# Altium footprint library PCB_Miscellaneous.PcbLib: 14 footprints
Each footprint in its own frame and in the unit in brackets; x right, y up, seen from the top. Pads: shape width x height; smd on the part's side, far side on the other; paste and mask are expansions set on the pad; w line width, h text height; cw(c..) or ccw(c..) is an arc to the next point about the centre after c.
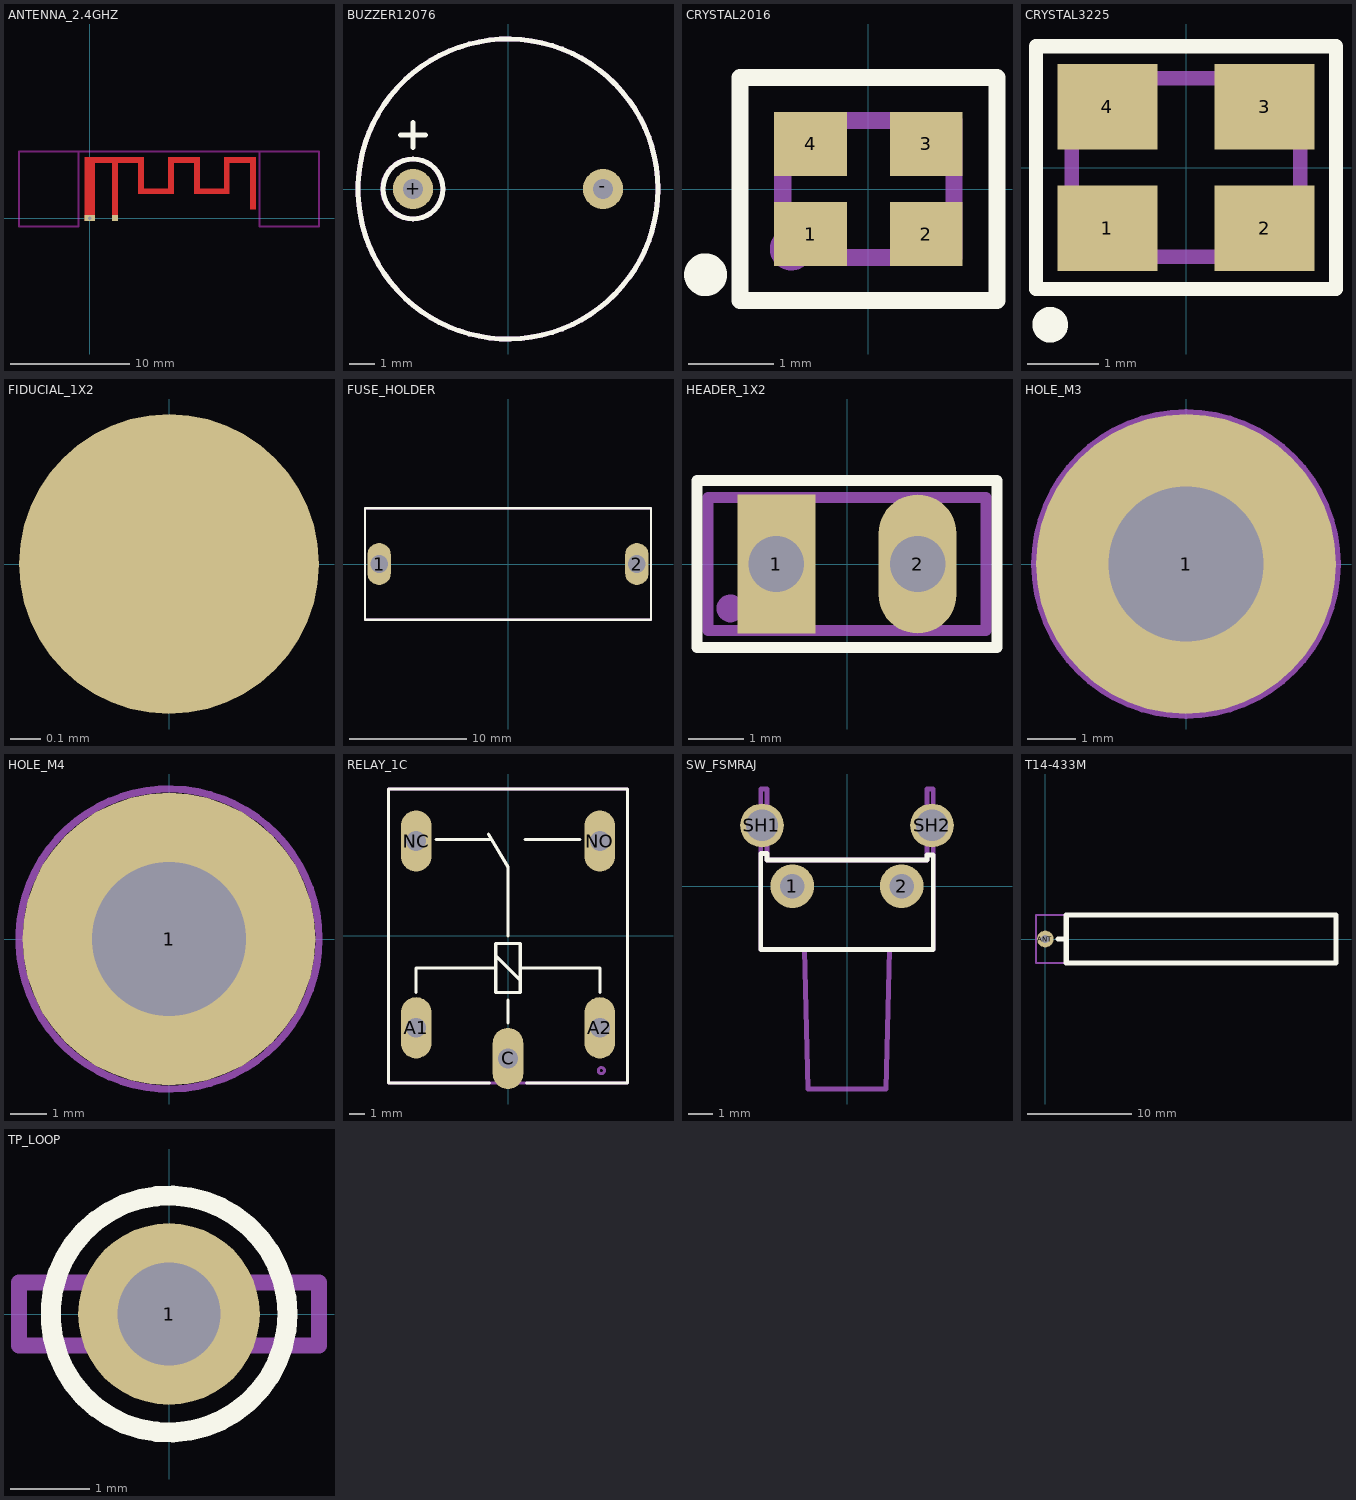
[diagram p0: the footprints below, top view; thin cyan lines are the x and y axes]

## ANTENNA_2.4GHZ [mm]
pads (2):
  rect 0.5x0.5 smd paste-2539.97 mask+0: ANT(2.1,0)
  rect 0.9x0.5 hole 0.3 paste+0 mask+0: GND(0,0)
Top Layer:
  rectangle: 1.85,-0.25 2.35,5.15
  rectangle: 4.05,2.01 7.05,2.51
  rectangle: 4.05,2.01 4.55,5.15
  rectangle: -0.45,4.65 4.55,5.15
  rectangle: 6.55,2.01 7.05,5.15
  rectangle: 6.55,4.65 9.25,5.15
  rectangle: 11.25,4.65 13.95,5.15
  rectangle: 11.25,2.01 11.75,5.15
  rectangle: 8.75,2.01 11.75,2.51
  rectangle: 8.75,2.01 9.25,5.15
  rectangle: 13.45,0.71 13.95,5.15
  rectangle: -0.45,-0.25 0.45,5.15
Keep-Out Layer:
  lines w0.2: -0.95,5.6 -0.95,-0.7 -5.95,-0.7 -5.95,5.6 19.25,5.6 19.25,-0.7 14.25,-0.7 14.25,5.6

## BUZZER12076 [mm]
pads (2):
  round 1.6 hole 0.8: +(-3.8,0) -(3.8,0)
Top Overlay:
  circle w0.2: c-3.8,0 r1.2
  circle w0.2: c0,0 r6
  lines w0.2: -4.308,2.159 -3.292,2.159 ; -3.8,1.651 -3.8,2.667
Top Assembly:
  circle w0.2: c-3.81,0 r1.2
  circle w0.2: c0,0 r6
  text ".Designator" at -3.499,-0.233 h0.7
3D body "BUZZER12076.STEP": height 9.71, standoff -5.99, extent -7.428,-5.988 6,5.988

## CRYSTAL2016 [mm]
pads (4):
  rect 0.85x0.75 smd: 1(-0.675,-0.525) 2(0.675,-0.525) 3(0.675,0.525) 4(-0.675,0.525)
Top Overlay:
  circle w0.3: c-1.9,-1 r0.1
  lines w0.2: -1.5,-1.3 -1.5,1.3 1.5,1.3 1.5,-1.3 -1.5,-1.3
Top Assembly:
  circle w0.3: c-0.9,-0.7 r0.1
  lines w0.2: -1,-0.8 -1,0.8 1,0.8 1,-0.8 -1,-0.8
  text ".Designator" at -3.499,-0.233 h0.7
3D body "CRYSTAL2016.STEP": height 0.6, standoff 0.01, extent -1.003,-0.8 1.003,0.8

## CRYSTAL3225 [mm]
pads (4):
  rect 1.4x1.2 smd: 1(-1.1,-0.85) 2(1.1,-0.85) 3(1.1,0.85) 4(-1.1,0.85)
Top Overlay:
  circle w0.3: c-1.9,-2.2 r0.1
  lines w0.2: -2.1,-1.7 2.1,-1.7 2.1,1.7 -2.1,1.7 -2.1,-1.7
Top Assembly:
  circle w0.3: c-1.1,-0.75 r0.1
  lines w0.2: -1.6,-1.25 -1.6,1.25 1.6,1.25 1.6,-1.25 -1.6,-1.25
  text ".Designator" at -3.499,-0.233 h0.7
3D body "CRYSTAL3225.STEP": height 0.71, standoff 0.01, extent -1.6,-1.25 1.6,1.25

## FIDUCIAL_1X2 [mm]
pads (1):
  round 1 smd paste-2539.97 mask+0.5: ""(0,0)

## FUSE_HOLDER [mm]
pads (2):
  oval 2x3.6 hole 1.5: 1(-11,0) 2(11,0)
Top Overlay:
  lines w0.2: -12.2,-4.75 -12.2,4.75 12.2,4.75 12.2,-4.75 -12.2,-4.75
Top Assembly:
  lines w0.2: -12.2,-4.75 -12.2,4.75 12.2,4.75 12.2,-4.75 -12.2,-4.75
  text ".Designator" at -3.499,-0.233 h0.7
3D body "FUSE_HOLDER.STEP": height 10.81, standoff -4.15, extent -12.078,-4.851 12.078,4.851

## HEADER_1X2 [mm]
pads (2):
  rect 1.4x2.5 hole 1: 1(-1.27,0)
  oval 1.4x2.5 hole 1: 2(1.27,0)
Top Overlay:
  lines w0.2: -2.7,-1.5 2.7,-1.5 2.7,1.5 -2.7,1.5 -2.7,-1.5
Top Assembly:
  circle w0.3: c-2.1,-0.8 r0.1
  lines w0.2: -2.5,-1.2 2.5,-1.2 2.5,1.2 -2.5,1.2 -2.5,-1.2
  text ".Designator" at -3.499,-0.233 h0.7
3D body "HEADER_1X2.STEP": height 8.39, standoff -3.16, extent -2.54,-1.245 2.54,1.245

## HOLE_M3 [mm]
pads (1):
  round 6.2 hole 3.2 paste+0 mask+0: 1(0,0)
Top Assembly:
  circle w0.2: c0,0 r3.1
  text ".Designator" at -3.499,-0.233 h0.7
3D body "SCREW_M3X6.stp": height 2.39, standoff -5.99, extent -2.8,-2.801 2.8,2.802

## HOLE_M4 [mm]
pads (1):
  round 8 hole 4.2 paste+0 mask+0: 1(0,0)
Top Assembly:
  circle w0.2: c0,0 r4.1
  text ".Designator" at -3.499,-0.233 h0.7
3D body "SCREW_M4X6.stp": height 3.07, standoff -5.99, extent -4,-4.001 4,4.002

## RELAY_1C [mm]
pads (5):
  oval 2x4 hole 1.3: A1(-6,-6) A2(6,-6) C(0,-8) NC(-6,6.2) NO(6,6.2)
Top Overlay:
  lines w0.2: -6,-3.7 -6,-2.1 -0.8,-2.1 ; -4.7,6.3 -1.1,6.3 ; -1.268,6.648 0,4.5 0,0 ; -1.2,-9.6 -7.8,-9.6 -7.8,9.6 7.8,9.6 7.8,-9.6 1.2,-9.6 ; -0.8,-1.3 0.8,-2.9 ; 0,-5.7 0,-4.2 ; 0.8,-2.1 6,-2.1 6,-3.7 ; 1.1,6.3 4.7,6.3 ; -0.8,-3.7 0.8,-3.7 0.8,-0.5 -0.8,-0.5 -0.8,-3.7
Top Assembly:
  circle w0.2: c6.1,-8.8 r0.2
  lines w0.2: -7.8,-9.6 7.8,-9.6 7.8,9.6 -7.8,9.6 -7.8,-9.6
  text ".Designator" at -3.499,-0.233 h0.7
3D body "RELAY-1C.STEP": height 15.81, standoff -2.99, extent -7.8,-9.6 7.8,9.6

## SHUNT [mm]
3D body "SHUNT.STEP": height 16.12, standoff 2.15, extent -2.54,-1.27 2.54,1.27

## SW_FSMRAJ [mm]
pads (4):
  round 1.8 hole 1: 1(-2.25,0) 2(2.25,0)
  round 1.8 hole 1.3: SH1(-3.5,2.5) SH2(3.5,2.5)
Top Overlay:
  lines w0.2: -3.55,-2.6 3.55,-2.6 3.55,1.08 3.55,1.29 3.3,1.29 3.3,1.08 -3.3,1.08 -3.3,1.34 -3.55,1.34 -3.55,1.08 -3.55,-2.6
Top Assembly:
  lines w0.2: -1.75,-2.61 -1.6,-8.35 1.6,-8.35 1.75,-2.61 ; -3.55,-2.6 3.55,-2.6 3.55,1.08 3.55,4 3.3,4 3.3,1.08 -3.3,1.08 -3.3,4 -3.55,4 -3.55,1.08 -3.55,-2.6
  text ".Designator" at -3.499,-1.933 h0.7
3D body "SW_FSMRAJ.STEP": height 7.3, standoff -3.7, extent -4.201,-8.3 4.201,4

## T14-433M [mm]
pads (1):
  round 1.6 hole 0.8: ANT(0,0)
Top Overlay:
  lines w0.5: 1.2,0 2,0 ; 2,-2.3 2,2.3 27.9,2.3 27.9,-2.3 2,-2.3
Top Assembly:
  lines w0.2: -0.9,-2.3 -0.9,2.3 27.9,2.3 27.9,-2.3 -0.9,-2.3
  text ".Designator" at 10.201,-0.233 h0.7
3D body: height 5.54, standoff 0.46, extent 0,-2.54 27.9,2.54

## TP_LOOP [mm]
pads (1):
  round 2.3 hole 1.3 paste+0 mask+0: 1(0,0)
Top Overlay:
  circle w0.254: c0,0 r1.5
Top Assembly:
  lines w0.2: -1.9,-0.4 -1.9,0.4 1.9,0.4 1.9,-0.4 -1.9,-0.4
  text ".Designator" at -3.499,1.567 h0.7
3D body "TP_LOOP.STEP": height 9.03, standoff -6.97, extent -1.905,-0.406 1.905,0.406